# EAGLE library part OPENAG-ISOLATORS_ISO1540DR (library PFCEDU_V3)
DGTL ISO 2.5KV 2CH I2C 8SOIC Description: I²C Digital Isolator 2500Vrms 2 Channel 1Mbps 25kV/µs CMTI 8-SOIC (0.154", 3.90mm Width) Technical Specifications: Technology: Capacitive Coupling Type: I²C Number of Channels: 2 Channel Type: Bidirectional Voltage-Isolation: 2500Vrms Voltage - Supply: 3 V ~ 5.5 V Data Rate: 1Mbps Operating Temperature: -40°C ~ 125°C Package / Case: 8-SOIC (0.154", 3.90mm Width) Max Supply Current (3V ≤ VCC1, VCC2 ≤ 3.6V) Side 1, Side 2: 3.8mA, 3.1mA Datasheet(s): ISO154x <http://www.ti.com/lit/ds/symlink/iso1540.pdf> Vendor(s): Digikey: 296-34871-1-ND <https://www.digikey.com/product-detail/en/texas-instruments/ISO1540DR/296-34871-1-ND/3587214>
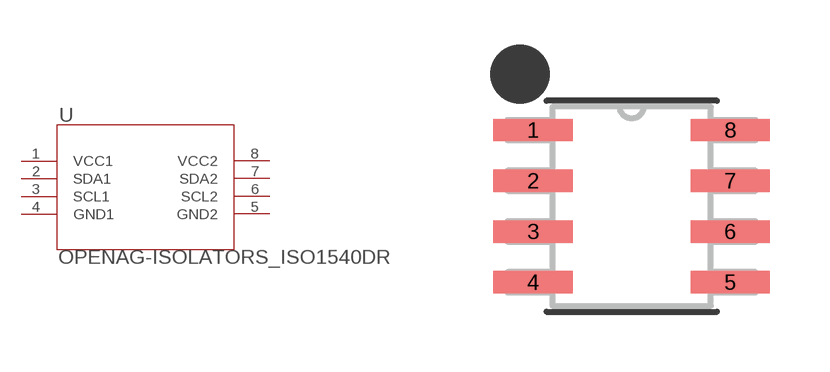
[diagram p5: symbol with the pads of OPENAG-ISOLATORS_D8; footprint OPENAG-ISOLATORS_D8]

Designator prefix U

## OPENAG-ISOLATORS_ISO1540DR (MANUFACTURER: Texas Instruments; MPN: ISO1540DR; VALUE: ISO1540; VENDOR: Digikey; VLINK: https://www.digikey.com/product-detail/en/texas-instruments/ISO1540DR/296-34871-1-ND/3587214; VPN: 296-34871-1-ND)  [OPENAG-ISOLATORS_D8]
1  VCC1  pwr
2  SDA1
3  SCL1
4  GND1  pwr
5  GND2  pwr
6  SCL2
7  SDA2
8  VCC2  pwr

## Footprint OPENAG-ISOLATORS_D8 (pad centres in mm)
smd 1.981 x 0.559: 1 -2.464,1.905; 2 -2.464,0.635; 3 -2.464,-0.635; 4 -2.464,-1.905; 5 2.464,-1.905; 6 2.464,-0.635; 7 2.464,0.635; 8 2.464,1.905